# Altium integrated library pot-vitrohm.IntLib: 1 symbol
Pins are listed as number, name and electrical type; pins without a type are passive.

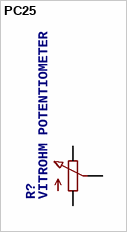
[diagram p0: symbol PC25]

## PC25
designator R?, comment VITROHM POTENTIOMETER
MPN: 308NPC25KS; MF: CLAROSTAT; OC_FARNELL: 1440998; OC_NEWARK: 03F7518
footprint PC25
pins: A, E, S